# EAGLE library part L78L08ABD13TR (library IowaFormula)
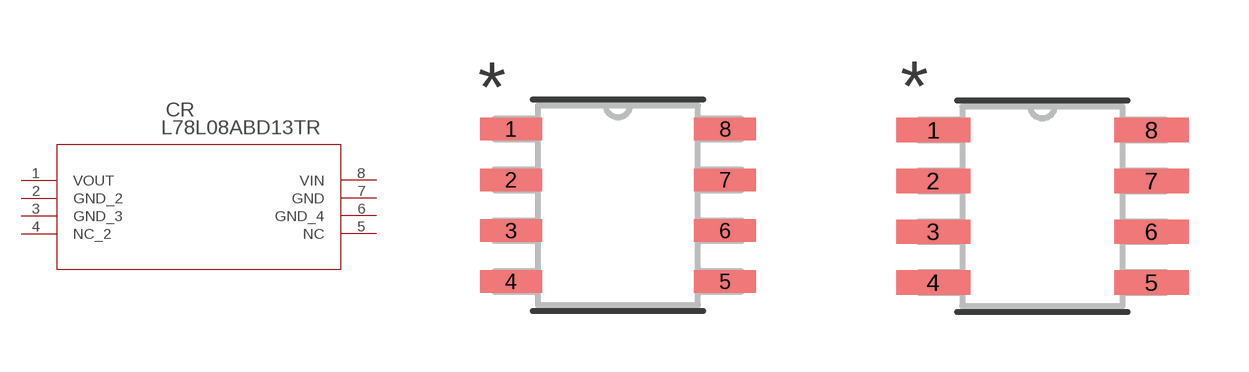
[diagram p2: symbol with the pads of SO-8; footprints SO-8, SO-8-M]

Designator prefix CR

## L78L08ABD13TR (MANUFACTURER_PART_NUMBER: L78L08ABD13TR; VENDOR: STMicroelectronics)  [SO-8]
1  VOUT  out
2  GND_2  pas
3  GND_3  pas
4  NC_2  nc
5  NC  nc
6  GND_4  pas
7  GND  pas
8  VIN  in

## L78L08ABD13TRSO-8-M (MANUFACTURER_PART_NUMBER: L78L08ABD13TR; VENDOR: STMicroelectronics)  [SO-8-M]
Pads as for SO-8

## L78L08ABD13TRSO-8-L (MANUFACTURER_PART_NUMBER: L78L08ABD13TR; VENDOR: STMicroelectronics)  [SO-8-L]
Pads as for SO-8

## Footprint SO-8 (pad centres in mm)
smd 1.549 x 0.559: 1 -2.68,1.905; 2 -2.68,0.635; 3 -2.68,-0.635; 4 -2.68,-1.905; 5 2.68,-1.905; 6 2.68,-0.635; 7 2.68,0.635; 8 2.68,1.905

## Footprint SO-8-M (pad centres in mm)
smd 1.854 x 0.61: 1 -2.731,1.905; 2 -2.731,0.635; 3 -2.731,-0.635; 4 -2.731,-1.905; 5 2.731,-1.905; 6 2.731,-0.635; 7 2.731,0.635; 8 2.731,1.905

## Footprint SO-8-L (pad centres in mm)
smd 1.245 x 0.508: 1 -2.629,1.905; 2 -2.629,0.635; 3 -2.629,-0.635; 4 -2.629,-1.905; 5 2.629,-1.905; 6 2.629,-0.635; 7 2.629,0.635; 8 2.629,1.905